# Altium schematic symbol library Schlib_Componentes_HC11.SchLib: 3 symbols
Pins are listed as number, name and electrical type; pins without a type are passive.

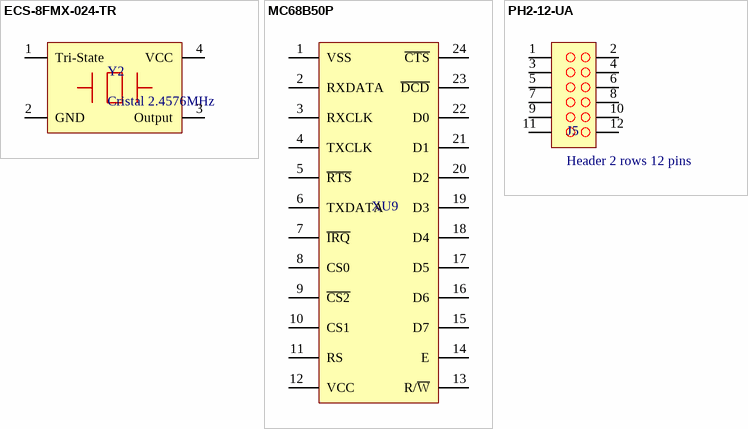
[diagram p0: symbols ECS-8FMX-024-TR to PH2-12-UA]

## ECS-8FMX-024-TR
designator Y2, comment Cristal 2.4576MHz
Oscillator Xo 2.4576MHZ ±200PPM 50PF Cmos/ttl 60% 5V 4-PIN SMD T/r; Manufacturer: ECS International; Manufacturer Part Number: ECS-8FMX-024-TR; Max Supply Voltage: 5.5V; Min Supply Voltage: 4.5V; Max Supply Current: 23mA; RoHS: Yes; Category: Oscillators; Stock 1: 7495; Pricing 1: 1=4,04, 10=3,838, 50=3,636, 100=3,333, 500=3,1815 (USD); Mount: Surface Mount; Min Operating Temperature: -40°C; Max Operating Temperature: 85°C; Frequency: 2.4576MHz; Packaging: Tape and Reel; Load Capacitance: 50pF; Operating Supply Voltage: 5V; Frequency Stability: 200ppm; Termination: SMD/SMT; Series: ECS-8FX; Lead Pitch: 3.81mm; Lead Free: Lead Free; RoHS Compliant: Yes; ComponentLink1Description: Datasheet; ComponentLink1URL: https://ecsxtal.com/store/pdf/ecs-8fx.pdf
footprint Y2_ECS8FMX024TR
pins: 1 Tri-State, 2 GND, 3 Output, 4 VCC

## MC68B50P
designator XU9
MC68B50P whith SMD Socket
footprint XU9_MC68B50P_DIPsocket24pins
pins: 1 VSS, 2 RXDATA, 3 RXCLK, 4 TXCLK, 5 ~{RTS}, 6 TXDATA, 7 ~{IRQ}, 8 CS0, 9 ~{CS2}, 10 CS1, 11 RS, 12 VCC, 13 R/~{W}, 14 E, 15 D7, 16 D6, 17 D5, 18 D4, 19 D3, 20 D2, 21 D1, 22 D0, 23 ~{DCD}, 24 ~{CTS}

## PH2-12-UA
designator J5, comment Header 2 rows 12 pins
Conn Unshrouded Header HDR 12 POS 2.54mm Solder ST Top Entry Thru-Hole Bag; Manufacturer: Adam Tech; Manufacturer Part Number: PH2-12-UA; Supplier 1: Digikey; RoHS: Yes; Category: Headers and Wire Housings; Stock 1: 11935; Pricing 1: 1=0,22, 10=0,168, 100=0,1284, 500=0,10686, 1000=0,09892, 5000=0,08318, 10000=0,07743 (USD); RoHS Compliant: Yes; ComponentLink1URL: https://datasheet.octopart.com/PH2-12-UA-Adam-Tech-datasheet-12510360.pdf?src-supplier=Future+Electronics; ComponentLink1Description: https://datasheet.octopart.com/PH2-12-UA-Adam-Tech-datasheet-12510360.pdf?src-supplier=Future+Electronics; Supplier Part Number 1: 2057-PH2-12-UA-ND
footprint Header_2rows_12pins
pins: 1 *, 2, 3, 4, 5, 6, 7, 8, 9, 10, 11, 12